# Altium schematic symbol library Antena.SchLib: 1 symbol
Pins are listed as number, name and electrical type; pins without a type are passive.

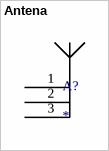
[diagram p0: symbol Antena]

## Antena
designator A?  (net tie, no BOM)
footprint Antena_RFID
pins: 1, 2, 3